# Altium footprint library Joystick.PcbLib: 1 footprints
Each footprint in its own frame and in the unit in brackets; x right, y up, seen from the top. Pads: shape width x height; smd on the part's side, far side on the other; paste and mask are expansions set on the pad; w line width, h text height; cw(c..) or ccw(c..) is an arc to the next point about the centre after c.
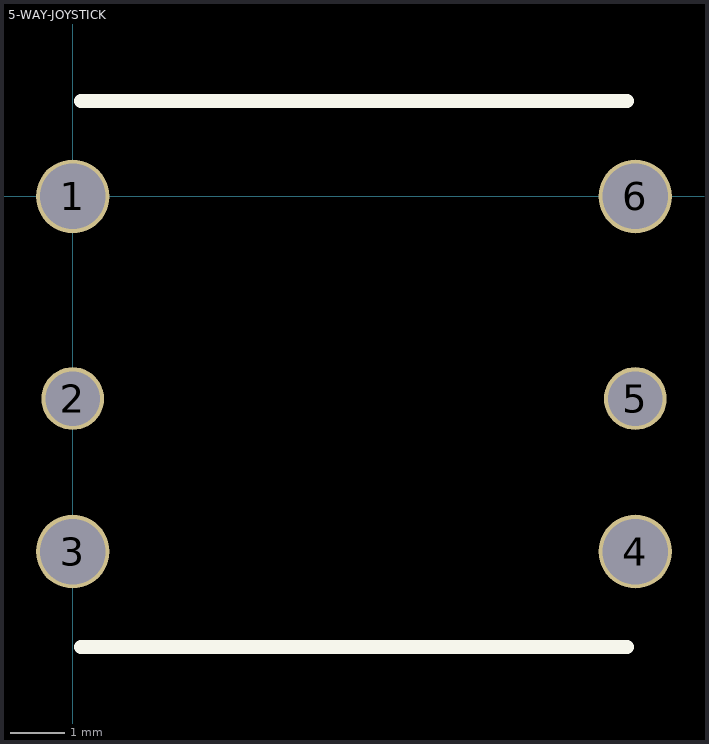
[diagram p0: the footprint, top view; thin cyan lines are the x and y axes]

## 5-WAY-JOYSTICK [mm]
pads (6):
  oval 1.34x1.35 hole 1.2: 1(0,0) 3(0,-6.5) 4(10.3,-6.5) 6(10.3,0)
  round 1.15 hole 1: 2(0,-3.7) 5(10.3,-3.7)
Top Overlay:
  lines w0.254: 0.15,-8.25 10.15,-8.25 ; 0.15,1.75 10.15,1.75